# Altium footprint library Motherboard Left.PcbLib: 5 footprints
Each footprint in its own frame and in the unit in brackets; x right, y up, seen from the top. Pads: shape width x height; smd on the part's side, far side on the other; paste and mask are expansions set on the pad; w line width, h text height; cw(c..) or ccw(c..) is an arc to the next point about the centre after c.
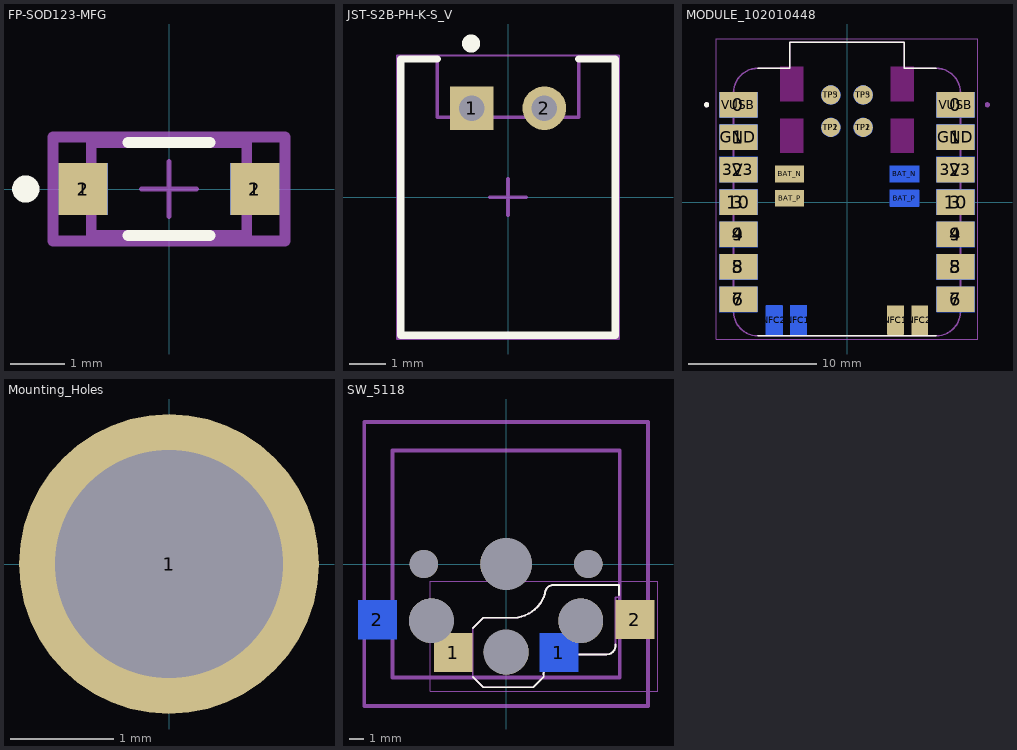
[diagram p0: the footprints below, top view; thin cyan lines are the x and y axes]

## FP-SOD123-MFG [mm]
pads (4):
  rect 0.9x0.95 smd paste+0 mask+0: 1(-1.575,0) 2(1.575,0)
  rect 0.9x0.95 smd far side paste+0 mask+0: 1(1.575,0) 2(-1.575,0)
Top Overlay:
  circle w0.25: c-2.625,0 r0.125
  lines w0.2: -0.75,-0.85 0.75,-0.85 ; -0.75,0.85 0.75,0.85
Bottom Overlay:
  circle w0.25: c2.625,0 r0.125
  lines w0.2: -0.75,-0.85 0.75,-0.85 ; -0.75,0.85 0.75,0.85
Top Assembly:
  lines w0.2: -2.125,-0.95 2.125,-0.95 2.125,0.95 -2.125,0.95 -2.125,-0.95
  text ".Designator" at 0,-0.001 h1
Top Courtyard:
  lines w0.2: -2.125,-0.95 2.125,-0.95 2.125,0.95 -2.125,0.95 -2.125,-0.95
Top Component Center:
  lines w0.1: -0.5,0 0.5,0 ; 0,-0.5 0,0.5
Bottom Assembly:
  lines w0.2: -2.125,-0.95 -2.125,0.95 2.125,0.95 2.125,-0.95 -2.125,-0.95
Bottom Courtyard:
  lines w0.2: -2.125,-0.95 -2.125,0.95 2.125,0.95 2.125,-0.95 -2.125,-0.95
Top 3D Body:
  lines w0.2: -1.425,-0.85 1.425,-0.85 1.425,0.85 -1.425,0.85 -1.425,-0.85
Bottom 3D Body:
  lines w0.2: -1.425,-0.85 -1.425,0.85 1.425,0.85 1.425,-0.85 -1.425,-0.85
Bottom Component Center:
  lines w0.1: -0.5,0 0.5,0 ; 0,-0.5 0,0.5
3D body "Diode_Diodes_Inc_1N4148W-13-F_eec.STEP": height 1.45, standoff 0, extent -1.85,-0.775 1.85,0.775
3D body "Diode_Diodes_Inc_1N4148W-13-F_eec.STEP": height 1.45, standoff 0, extent -1.85,-0.775 1.85,0.775

## JST-S2B-PH-K-S_V [mm] "THD, 2-Leads, Body 7.6x5.9mm, Pitch 2mm"
height 4.8
pads (2):
  rect 1.2x1.2 hole 0.7: 1(-1,2.45)
  round 1.2 hole 0.7: 2(1,2.45)
Top Overlay:
  circle w0.25: c-1.016,4.228 r0.125
  lines w0.2: -1.95,3.8 -2.95,3.8 -2.95,-3.8 2.95,-3.8 2.95,3.8 1.95,3.8
Mechanical 13:
  lines w0.1: -2.95,-3.8 2.95,-3.8 2.95,3.8 1.95,3.8 1.95,2.2 -1.95,2.2 -1.95,3.8 -1.95,3.8 -2.95,3.8 -2.95,-3.8
Mechanical 15:
  lines w0.05: -3.05,-3.9 -3.05,3.9 3.05,3.9 3.05,-3.9 -3.05,-3.9
  lines w0.1: -0.5,0 0.5,0 ; 0,-0.5 0,0.5
3D body "S2B-PH-K-S.STEP": height 4.8, standoff -3.4, extent -2.95,-3.8 2.95,3.8

## MODULE_102010448 [mm]
height 21.5
pads (44):
  rrect3% 3x2 smd: 0(-8.5,7.62) 1(-8.5,5.08) 2(-8.5,2.54) 3(-8.5,0) 3V3(8.5,2.54) 4(-8.5,-2.54) 5(-8.5,-5.08) 6(-8.5,-7.62) 7(8.5,-7.62) 8(8.5,-5.08) 9(8.5,-2.54) 10(8.5,0) GND(8.5,5.08) VUSB(8.5,7.62)
  rrect3% 3x2 smd far side: 0(8.5,7.62) 1(8.5,5.08) 2(8.5,2.54) 3(8.5,0) 3V3(-8.5,2.54) 4(8.5,-2.54) 5(8.5,-5.08) 6(8.5,-7.62) 7(-8.5,-7.62) 8(-8.5,-5.08) 9(-8.5,-2.54) 10(-8.5,0) GND(-8.5,5.08) VUSB(-8.5,7.62)
  rrect4% 2.3x1.3 smd: BAT_N(-4.5,2.2) BAT_P(-4.5,0.3)
  rrect4% 2.3x1.3 smd far side: BAT_N(4.5,2.2) BAT_P(4.5,0.3)
  rrect4% 1.3x2.3 smd far side: NFC1(-3.8,-9.25) NFC2(-5.7,-9.25)
  rrect4% 1.3x2.3 smd: NFC1(3.8,-9.25) NFC2(5.7,-9.25)
  round 1.5 smd far side: TP1(-1.27,5.85) TP2(1.27,5.85) TP3(-1.27,8.39) TP5(1.27,8.39)
  round 1.5 smd: TP1(1.27,5.85) TP2(-1.27,5.85) TP3(1.27,8.39) TP5(-1.27,8.39)
Top Overlay:
  circle w0.2: c-11,7.62 r0.1
  lines w0.127: -6.984,-10.477 6.984,-10.477 ; -6.984,10.477 -4.47,10.477 -4.47,12.522 4.47,12.522 4.47,10.477 6.984,10.477
Bottom Overlay:
  circle w0.2: c11,7.62 r0.1
  lines w0.127: -6.984,-10.477 6.984,-10.477 ; -6.984,10.477 -4.47,10.477 -4.47,12.522 4.47,12.522 4.47,10.477 6.984,10.477
Keep-Out Layer:
  region: 3.439,7.915 5.217,7.915 5.217,10.582 3.439,10.582
  region: 3.439,3.851 5.217,3.851 5.217,6.518 3.439,6.518
  region: -5.197,3.851 -3.419,3.851 -3.419,6.518 -5.197,6.518
  region: -5.197,7.915 -3.419,7.915 -3.419,10.582 -5.197,10.582
  region: -3.439,7.915 -5.217,7.915 -5.217,10.582 -3.439,10.582
  region: -3.439,3.851 -5.217,3.851 -5.217,6.518 -3.439,6.518
  region: 5.197,3.851 3.419,3.851 3.419,6.518 5.197,6.518
  region: 5.197,7.915 3.419,7.915 3.419,10.582 5.197,10.582
Mechanical 13:
  circle w0.2: c11,7.62 r0.1
  circle w0.2: c-11,7.62 r0.1
  lines w0.127: -8.89,-8.571 ccw(c-6.984,-8.571) -6.984,-10.477 ; -8.89,-8.571 ccw(c-6.984,-8.571) -6.984,-10.477 ; -8.89,-8.571 -8.89,8.571 ; -8.89,-8.571 -8.89,8.571 ; -8.89,8.571 cw(c-6.984,8.571) -6.984,10.477 ; -8.89,8.571 cw(c-6.984,8.571) -6.984,10.477 ; -6.984,-10.477 6.984,-10.477 ; -6.984,-10.477 6.984,-10.477 ; -6.984,10.477 -4.47,10.477 ; -6.984,10.477 -4.47,10.477 ; -4.47,10.477 -4.47,12.522 ; -4.47,10.477 -4.47,12.522 ; -4.47,12.522 4.47,12.522 ; -4.47,12.522 4.47,12.522 ; 4.47,10.477 6.984,10.477 ; 4.47,10.477 4.47,12.522 ; 4.47,10.477 6.984,10.477 ; 4.47,10.477 4.47,12.522 ; 6.984,-10.477 ccw(c6.984,-8.571) 8.89,-8.571 ; 6.984,-10.477 ccw(c6.984,-8.571) 8.89,-8.571 ; 6.984,10.477 cw(c6.984,8.571) 8.89,8.571 ; 6.984,10.477 cw(c6.984,8.571) 8.89,8.571 ; 8.89,-8.571 8.89,8.571 ; 8.89,-8.571 8.89,8.571
Mechanical 15:
  lines w0.05: -10.25,-10.727 -10.25,12.772 ; -10.25,-10.727 10.25,-10.727 ; -10.25,-10.727 10.25,-10.727 ; -10.25,-10.727 -10.25,12.772 ; -10.25,12.772 10.25,12.772 ; -10.25,12.772 10.25,12.772 ; 10.25,-10.727 10.25,12.772 ; 10.25,-10.727 10.25,12.772
3D body "step_temp.STEP": height 4.46, standoff 0, extent -8.89,-10.477 8.89,12.004
3D body "step_temp.STEP": height 4.46, standoff 0, extent -8.89,-10.477 8.89,12.004

## Mounting_Holes [mm]
height 21.5
pads (1):
  round 2.9 hole 2.2: 1(0,0)

## SW_5118 [mm]
height 1.85
pads (11):
  rect 2.6x2.6 smd: 1(-3.535,-5.926) 2(8.615,-3.726)
  rect 2.6x2.6 smd far side: 1(3.535,-5.926) 2(-8.615,-3.726)
  round 1.902 hole 1.902 unplated: ""(-5.5,0) ""(5.5,0)
  round 3 hole 3 unplated: ""(-5,-3.8) ""(0,-5.9) ""(0,-5.9) ""(5,-3.8)
  round 3.452 hole 3.452 unplated: ""(0,0)
Top Overlay:
  circle w0.2: c-4.11,-3.976 r0.1
  lines w0.127: -2.235,-7.551 -1.535,-8.251 1.815,-8.251 2.515,-7.551 ; -2.235,-4.301 -1.535,-3.601 0.515,-3.601 ; 0.531,-3.6 ccw(c0.41,-1.304) 2.61,-1.976 ; 2.515,-7.554 cw(c3.875,-7.411) 3.732,-6.051 ; 2.605,-1.986 cw(c3.18,-1.976) 3.17,-1.401 ; 3.165,-1.401 7.565,-1.401 7.565,-2.076 ; 3.735,-6.051 6.735,-6.051 ccw(c6.735,-5.471) 7.315,-5.471 ; 7.315,-5.476 7.315,-5.376
Mechanical 1:
  lines w0.254: -7.6,-7.6 -7.6,7.6 7.6,7.6 7.6,-7.6 -7.6,-7.6
Mechanical 13:
  circle w0.2: c-4.11,-3.976 r0.1
  lines w0.127: 0.515,-3.601 -1.535,-3.601 -2.235,-4.301 -2.235,-7.551 -1.535,-8.251 1.815,-8.251 2.515,-7.551 ; 0.531,-3.6 ccw(c0.41,-1.304) 2.61,-1.976 ; 2.515,-7.554 cw(c3.875,-7.411) 3.732,-6.051 ; 2.605,-1.986 cw(c3.18,-1.976) 3.17,-1.401 ; 3.165,-1.401 7.565,-1.401 7.565,-2.226 7.315,-2.226 7.315,-5.471 cw(c6.735,-5.471) 6.735,-6.051 3.735,-6.051
  lines w0.254: -9.5,-9.5 -9.5,9.5 9.5,9.5 9.5,-9.5 -9.5,-9.5
Mechanical 15:
  lines w0.05: -5.085,-8.501 10.165,-8.501 10.165,-1.151 -5.085,-1.151 -5.085,-8.501
3D body "step_temp.STEP": height 1.85, standoff -1.2, extent -4.035,-8.251 9.115,-1.401
3D body "step_temp.STEP": height 1.85, standoff -1.2, extent -9.115,-8.251 4.035,-1.401